# EAGLE library part M22-25110XX (library Harwin)
Harwin M22-25110XX - 2mm pitch, 1x10 male pin header Datasheet: https://cdn.harwin.com/pdfs/M22-251.pdf
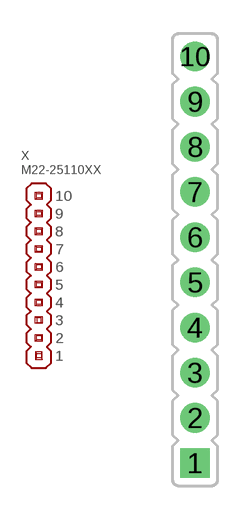
[diagram p4: symbol with the pads of M22-25110XX; footprint M22-25110XX]

Designator prefix X

## M22-25110XX (PARTNO: M22-2511005)  [M22-25110XX]
1  1
2  2
3  3
4  4
5  5
6  6
7  7
8  8
9  9
10  10

## Footprint M22-25110XX (pad centres in mm)
Harwin M22-25110XX - 2mm pitch, 1x10 male pin header Datasheet: https://cdn.harwin.com/pdfs/M22-251.pdf
drill 0.8 square: 1 0,-9
drill 0.8 round: 2 0,-7; 3 0,-5; 4 0,-3; 5 0,-1; 6 0,1; 7 0,3; 8 0,5; 9 0,7; 10 0,9